# EAGLE library part CD74HC4067 (library EPL)
High-Speed CMOS Logic 16-Channel Analog Multiplexer/Demultiplexer
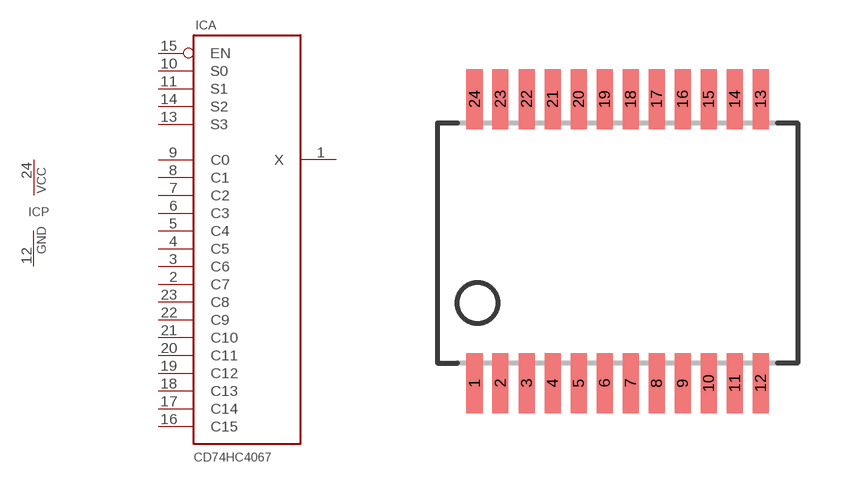
[diagram p4: symbol with the pads of SSOP24; footprint SSOP24]

Designator prefix IC; gates A=CD74HC4067 P=PWR

## CD74HC4067  [SSOP24]
1  A:X
2  A:C7
3  A:C6
4  A:C5
5  A:C4
6  A:C3
7  A:C2
8  A:C1
9  A:C0
10  A:S0
11  A:S1
12  P:GND  pwr
13  A:S3
14  A:S2
15  A:EN
16  A:C15
17  A:C14
18  A:C13
19  A:C12
20  A:C11
21  A:C10
22  A:C9
23  A:C8
24  P:VCC  pwr

## Footprint SSOP24 (pad centres in mm)
PLASTIC SMALL-OUTLINE Package
smd 0.4 x 1.5: 1 -3.575,0; 2 -2.93,0; 3 -2.275,0; 4 -1.625,0; 5 -0.975,0; 6 -0.325,0; 7 0.325,0; 8 0.975,0; 9 1.625,0; 10 2.275,0; 11 2.93,0; 12 3.575,0; 13 3.575,7.1; 14 2.93,7.1; 15 2.275,7.1; 16 1.625,7.1; 17 0.975,7.1; 18 0.325,7.1; 19 -0.325,7.1; 20 -0.975,7.1; 21 -1.625,7.1; 22 -2.275,7.1; 23 -2.93,7.1; 24 -3.575,7.1